# EAGLE library part 66101621622 (library WR-WTB)
WR-WTB 2.54 mm Male Vertical Shrouded Header KIND PROPERTIES: Pitch:2.54 mm Gender:Male Type:Vertical MATERIAL PROPERTIES: Insulator Material :PA46 Insulator Flammability Rating:UL94 V-0 Color:Black Contact Material:Phosphor Bronze Contact Plating:Tin GENERAL INFORMATION Operating Temperature:-40 up to +105 °C Compliance: RoHS IR:3A Working Voltage:50 V (AC) Withstanding Voltage:500 V (AC) Contact Resistance:20 mΩ PACKAGING PROPERTIES Packaging:Box <https://www.we-online.com/catalog/media/o58903v209%20Family_WR-WTB_6610xx11622_2%2054.jpg> Details see: www.we-online.com/catalog/WTB_2_54_MALE_VERTICAL_SHROUDED_HEADER_GLOW_WIRE_PLASTIC_6610XXX1622 <www.we-online.com/catalog/WTB_2_54_MALE_VERTICAL_SHROUDED_HEADER_GLOW_WIRE_PLASTIC_6610XXX1622/?utm_source=eagle_model&utm_medium=description_link&utm_campaign=eisos_eagle> Created by Ella Wu 2022-10-31 2022 (C) Würth Elektronik
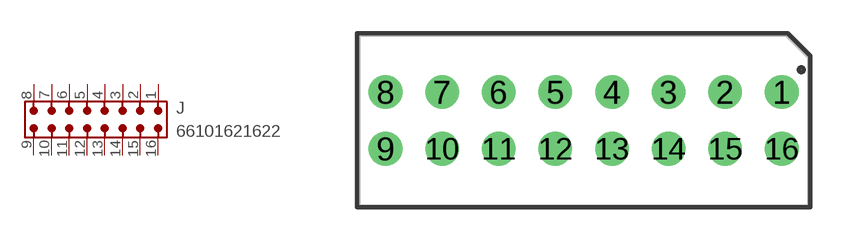
[diagram p143: symbol with the pads of 66101621622; footprint 66101621622]

Designator prefix J

## 66101621622 (CONTACT-RESISTANCE: 20mOhm; DATASHEET-URL: https://www.we-online.com/redexpert/spec/66101621622?ae; GENDER: Male; IR: 3A; L: 40.44mm; MOUNT: THT; PACKAGING: Box; PART-NUMBER: 66101621622; PCB-CABLE-PANEL: PCB; PINS: 16; PITCH: 2.54mm; TYPE: Vertical; VALUE: 66101621622; WORKING-VOLTAGE: 50V(AC))  [66101621622]
1  1  pas
2  2  pas
3  3  pas
4  4  pas
5  5  pas
6  6  pas
7  7  pas
8  8  pas
9  9  pas
10  10  pas
11  11  pas
12  12  pas
13  13  pas
14  14  pas
15  15  pas
16  16  pas

## Footprint 66101621622 (pad centres in mm)
WR-WTB 2.54 mm Male Vertical Shrouded Header THT, 16Pins
drill 1: 1 8.89,1.27; 2 6.35,1.27; 3 3.81,1.27; 4 1.27,1.27; 5 -1.27,1.27; 6 -3.81,1.27; 7 -6.35,1.27; 8 -8.89,1.27; 9 -8.89,-1.27; 10 -6.35,-1.27; 11 -3.81,-1.27; 12 -1.27,-1.27; 13 1.27,-1.27; 14 3.81,-1.27; 15 6.35,-1.27; 16 8.89,-1.27